# Altium footprint library TestBoardLib.PcbLib: 4 footprints
Each footprint in its own frame and in the unit in brackets; x right, y up, seen from the top. Pads: shape width x height; smd on the part's side, far side on the other; paste and mask are expansions set on the pad; w line width, h text height; cw(c..) or ccw(c..) is an arc to the next point about the centre after c.
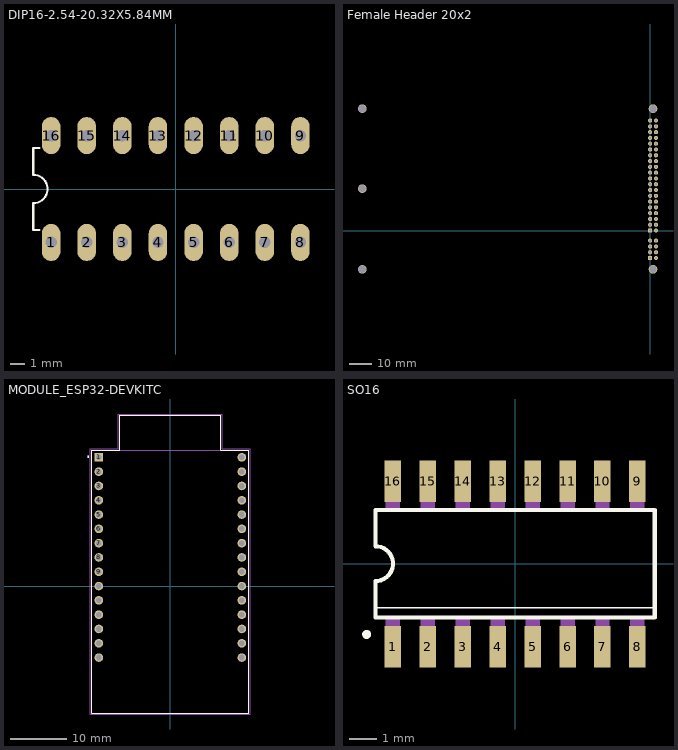
[diagram p0: the footprints below, top view; thin cyan lines are the x and y axes]

## DIP16-2.54-20.32X5.84MM [mil]
pads (16):
  oval 52x104 hole 32: 1(-350,-150) 2(-250,-150) 3(-150,-150) 4(-50,-150) 5(50,-150) 6(150,-150) 7(250,-150) 8(350,-150) 9(350,150) 10(250,150) 11(150,150) 12(50,150) 13(-50,150) 14(-150,150) 15(-250,150) 16(-350,150)
Top Overlay:
  lines w5: -400,-115 -381.89,-115 ; -400,115 -381.89,115
  lines w6: -400,-115 -400,-40 ccw(c-400,0) -400,40 -400,115
3D body "step_temp.STEP": height 178.35, standoff -117.91, extent -374.51,-185.88 374.51,185.88

## Female Header 20x2 [mm]
pads (54):
  rect 1.8x1.8 hole 1: 1(0,0) 1-1(0,-12.065)
  round 1.8 hole 1: 1-2(2.54,-12.065) 1-3(0,-9.525) 1-4(2.54,-9.525) 1-5(0,-6.985) 1-6(2.54,-6.985) 1-7(0,-4.445) 1-8(2.54,-4.445) 2(2.54,0) 2(2.54,0) 3(0,2.54) 4(2.54,2.54) 5(0,5.08) 6(2.54,5.08) 7(0,7.62) 8(2.54,7.62) 9(0,10.16) 10(2.54,10.16) 11(0,12.7) 12(2.54,12.7) 13(0,15.24) 14(2.54,15.24) 15(0,17.78) 16(2.54,17.78) 17(0,20.32) 18(2.54,20.32) 19(0,22.86) 20(2.54,22.86) 21(0,25.4) 22(2.54,25.4) 23(0,27.94) 24(2.54,27.94) 25(0,30.48) 26(2.54,30.48) 27(0,33.02) 28(2.54,33.02) 29(0,35.56) 30(2.54,35.56) 31(0,38.1) 32(2.54,38.1) 33(0,40.64) 34(2.54,40.64) 35(0,43.18) 36(2.54,43.18) 37(0,45.72) 38(2.54,45.72) 39(0,48.26) 40(2.54,48.26)
  round 3.8 hole 3.2: ""(-126.3,-17.05) ""(-126.3,18.4) ""(-126.3,53.5) ""(1.25,-17.05) ""(1.25,53.5)
3D body "ER-TFTM050-5.step": height 7.64, standoff -0.76, extent -128.89,-19.666 3.81,56.134

## MODULE_ESP32-DEVKITC [mm]
pads (30):
  rect 1.53x1.53 hole 1.02: 1(-12.7,22.85)
  round 1.53 hole 1.02: 2(-12.7,20.31) 3(-12.7,17.77) 4(-12.7,15.23) 5(-12.7,12.69) 6(-12.7,10.15) 7(-12.7,7.61) 8(-12.7,5.07) 9(-12.7,2.53) 10(-12.7,-0.01) 11(-12.7,-2.55) 12(-12.7,-5.09) 13(-12.7,-7.63) 14(-12.7,-10.17) 15(-12.7,-12.71) 16(12.7,-12.71) 17(12.7,-10.17) 18(12.7,-7.63) 19(12.7,-5.09) 20(12.7,-2.55) 21(12.7,-0.01) 22(12.7,2.53) 23(12.7,5.07) 24(12.7,7.61) 25(12.7,10.15) 26(12.7,12.69) 27(12.7,15.23) 28(12.7,17.77) 29(12.7,20.31) 30(12.7,22.85)
Top Overlay:
  circle w0.2: c-14.57,22.97 r0.1
  lines w0.127: -13.95,-22.606 -4.07,-22.606 4.06,-22.606 13.95,-22.606 13.95,24.1 9,24.1 9,30.3 -9,30.3 -9,24.1 -13.95,24.1 -13.95,-22.606
Mechanical 13:
  circle w0.2: c-14.57,22.97 r0.1
  lines w0.127: -9,24.1 -9,30.3 9,30.3 9,24.1 ; -9,24.1 -13.95,24.1 -13.95,-22.606 -4.07,-22.606 4.06,-22.606 13.95,-22.606 13.95,24.1 9,24.1 ; -9,24.1 9,24.1
Mechanical 15:
  lines w0.05: -14.2,-22.733 -4.32,-22.733 4.31,-22.733 14.2,-22.733 14.2,24.38 9.25,24.38 9.25,30.55 -9.25,30.55 -9.25,24.38 -14.2,24.38 -14.2,-22.733
3D body "ESP-WROOM32.STEP": height 7.95, standoff -4.45, extent -14.224,-22.609 14.276,28.321

## SO16 [mm]
pads (16):
  rect 0.6x1.5 smd: 1(-4.445,-3.025) 2(-3.175,-3.025) 3(-1.905,-3.025) 4(-0.635,-3.025) 5(0.635,-3.025) 6(1.905,-3.025) 7(3.175,-3.025) 8(4.445,-3.025) 9(4.445,3) 10(3.175,3) 11(1.905,3) 12(0.635,3) 13(-0.635,3) 14(-1.905,3) 15(-3.175,3) 16(-4.445,3)
Top Overlay:
  circle w0.254: c-5.4,-2.575 r0.035
  lines w0.051: -5.08,-1.6 5.08,-1.6
  lines w0.152: -5.08,-1.956 5.08,-1.956 5.08,1.956 -5.08,1.956 -5.08,0.635 cw(c-5.08,0) -5.08,-0.635 -5.08,-1.956
Mechanical 13:
  region: -0.381,1.959 -0.89,1.959 -0.89,3.099 -0.381,3.099
  region: -4.191,-3.1 -4.7,-3.1 -4.7,-1.956 -4.191,-1.956
  region: -2.921,-3.099 -3.429,-3.099 -3.429,-1.956 -2.921,-1.956
  region: -1.651,-3.074 -2.159,-3.074 -2.159,-1.93 -1.651,-1.93
  region: -0.381,-3.105 -0.891,-3.105 -0.891,-1.956 -0.381,-1.956
  region: -1.651,1.957 -2.16,1.957 -2.16,3.099 -1.651,3.099
  region: -2.921,1.957 -3.431,1.957 -3.431,3.099 -2.921,3.099
  region: -4.191,1.958 -4.703,1.958 -4.703,3.099 -4.191,3.099
  region: 0.889,-3.1 0.381,-3.1 0.381,-1.956 0.889,-1.956
  region: 2.159,-3.101 1.652,-3.101 1.652,-1.956 2.159,-1.956
  region: 3.429,-3.1 2.922,-3.1 2.922,-1.956 3.429,-1.956
  region: 4.699,-3.1 4.193,-3.1 4.193,-1.956 4.699,-1.956
  region: 0.889,1.957 0.381,1.957 0.381,3.099 0.889,3.099
  region: 2.159,1.959 1.654,1.959 1.654,3.099 2.159,3.099
  region: 3.429,1.96 2.927,1.96 2.927,3.099 3.429,3.099
  region: 4.699,1.957 4.193,1.957 4.193,3.099 4.699,3.099
3D body "74HC595--3DModel-STEP-56544.STEP": height 1.75, standoff 0, extent -4.95,-2.925 4.95,3.075